# Altium schematic symbol library MCU-Library.SchLib: 3 symbols
Pins are listed as number, name and electrical type; pins without a type are passive.

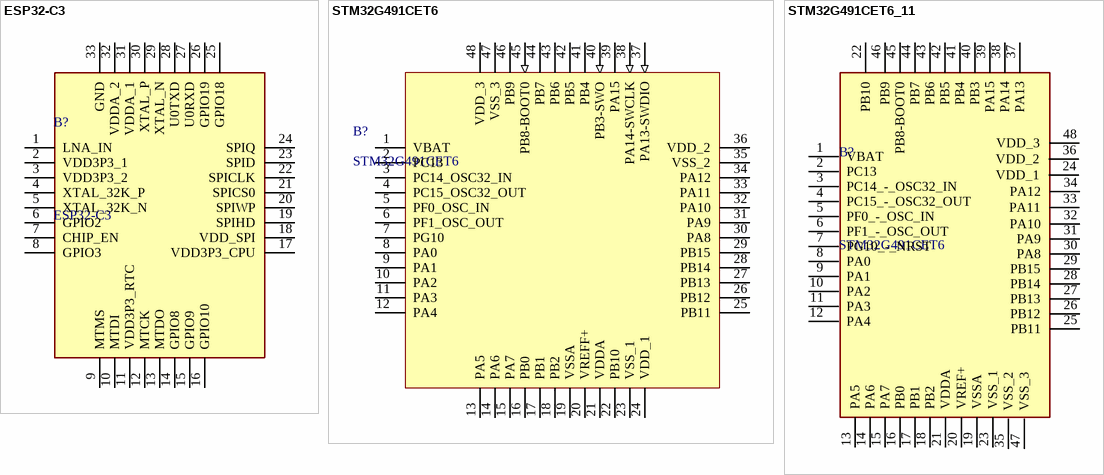
[diagram p0: symbols ESP32-C3 to STM32G491CET6_11]

## ESP32-C3
designator B?
400KB 22 3V~3.6V RISC-V 160MHz QFN-32-EP(5x5) Microcontroller Units (MCUs/MPUs/SOCs) ROHS; Manufacturer_Name: Espressif Systems; Geometry.Height: 0.9mm; Manufacturer_Part_Number: ESP32-C3; Mouser Part Number: 356-ESP32-C3; Mouser Price/Stock: https://www.mouser.co.uk/ProductDetail/Espressif-Systems/ESP32-C3?qs=iLbezkQI%252BsiMXe7tMG%252Bo%2FA%3D%3D; Arrow Part Number: *; Arrow Price/Stock: *; Datasheet Link: https://www.espressif.com/sites/default/files/documentation/esp32-c3_datasheet_en.pdf
footprint ESP32-C3
pins: 1 LNA_IN, 2 VDD3P3_1, 3 VDD3P3_2, 4 XTAL_32K_P, 5 XTAL_32K_N, 6 GPIO2, 7 CHIP_EN, 8 GPIO3, 9 MTMS, 10 MTDI, 11 VDD3P3_RTC, 12 MTCK, 13 MTDO, 14 GPIO8, 15 GPIO9, 16 GPIO10, 17 VDD3P3_CPU, 18 VDD_SPI, 19 SPIHD, 20 SPIWP, 21 SPICS0, 22 SPICLK, 23 SPID, 24 SPIQ, 25 GPIO18, 26 GPIO19, 27 U0RXD, 28 U0TXD, 29 XTAL_N, 30 XTAL_P, 31 VDDA_1, 32 VDDA_2, 33 GND

## STM32G491CET6
designator B?
ARM Microcontrollers - MCU Mainstream Arm Cortex-M4+ MCU 170MHz with 512Kbytes of Flash memory; Supplier 1: DigiKey; Supplier Part Number 1: 497-STM32G491CET6-ND
footprint STM32G491CET6
pins: 1 VBAT, 2 PC13, 3 PC14_OSC32_IN "PC14", 4 PC15_OSC32_OUT "PC15", 5 PF0_OSC_IN "PF0", 6 PF1_OSC_OUT "PF1", 7 PG10, 8 PA0, 9 PA1, 10 PA2, 11 PA3, 12 PA4, 13 PA5, 14 PA6, 15 PA7, 16 PB0, 17 PB1, 18 PB2, 19 VSSA, 20 VREFF+, 21 VDDA, 22 PB10, 23 VSS_1, 24 VDD_1, 25 PB11, 26 PB12, 27 PB13, 28 PB14, 29 PB15, 30 PA8, 31 PA9, 32 PA10, 33 PA11, 34 PA12, 35 VSS_2, 36 VDD_2, 37 PA13-SWDIO (in) "PA13", 38 PA14-SWCLK (in) "PA14", 39 PA15, 40 PB3-SWO (in) "PB3", 41 PB4, 42 PB5, 43 PB6, 44 PB7, 45 PB8-BOOT0 (in), 46 PB9, 47 VSS_3, 48 VDD_3

## STM32G491CET6_11
designator B?, comment STM32G491CET6
ARM Microcontrollers - MCU Mainstream Arm Cortex-M4+ MCU 170MHz with 512Kbytes of Flash memory; Manufacturer_Name: STMicroelectronics; Geometry.Height: 1.6mm; Manufacturer_Part_Number: STM32G491CET6; Mouser Part Number: 511-STM32G491CET6; Mouser Price/Stock: https://www.mouser.co.uk/ProductDetail/STMicroelectronics/STM32G491CET6?qs=eP2BKZSCXI5LxAF%2FNuF5Tg%3D%3D; Arrow Part Number: STM32G491CET6; Arrow Price/Stock: https://www.arrow.com/en/products/stm32g491cet6/stmicroelectronics?region=nac; Datasheet Link: https://cz.mouser.com/datasheet/2/389/dm00654712-2042072.pdf; Supplier: Mouser; Supplier Part Number: 511-STM32G491CET6; Supplier 1: Mouser; Supplier Part Number 1: 511-STM32G491CET6; ComponentLink1Description: Datasheet; ComponentLink1URL: https://datasheet.octopart.com/STM32G491CET6-STMicroelectronics-datasheet-151949616.pdf?src-supplier=Future+Electronics
footprint STM32G491CET6
pins: 1 VBAT, 2 PC13, 3 PC14_-_OSC32_IN, 4 PC15_-_OSC32_OUT, 5 PF0_-_OSC_IN, 6 PF1_-_OSC_OUT, 7 PG10_-_NRST, 8 PA0, 9 PA1, 10 PA2, 11 PA3, 12 PA4, 13 PA5, 14 PA6, 15 PA7, 16 PB0, 17 PB1, 18 PB2, 19 VSSA, 20 VREF+, 21 VDDA, 22 PB10, 23 VSS_1, 24 VDD_1, 25 PB11, 26 PB12, 27 PB13, 28 PB14, 29 PB15, 30 PA8, 31 PA9, 32 PA10, 33 PA11, 34 PA12, 35 VSS_2, 36 VDD_2, 37 PA13, 38 PA14, 39 PA15, 40 PB3, 41 PB4, 42 PB5, 43 PB6, 44 PB7, 45 PB8-BOOT0, 46 PB9, 47 VSS_3, 48 VDD_3